# Altium schematic symbol library Regulator_Linear.SchLib: 1620 symbols (part 14 of 16)
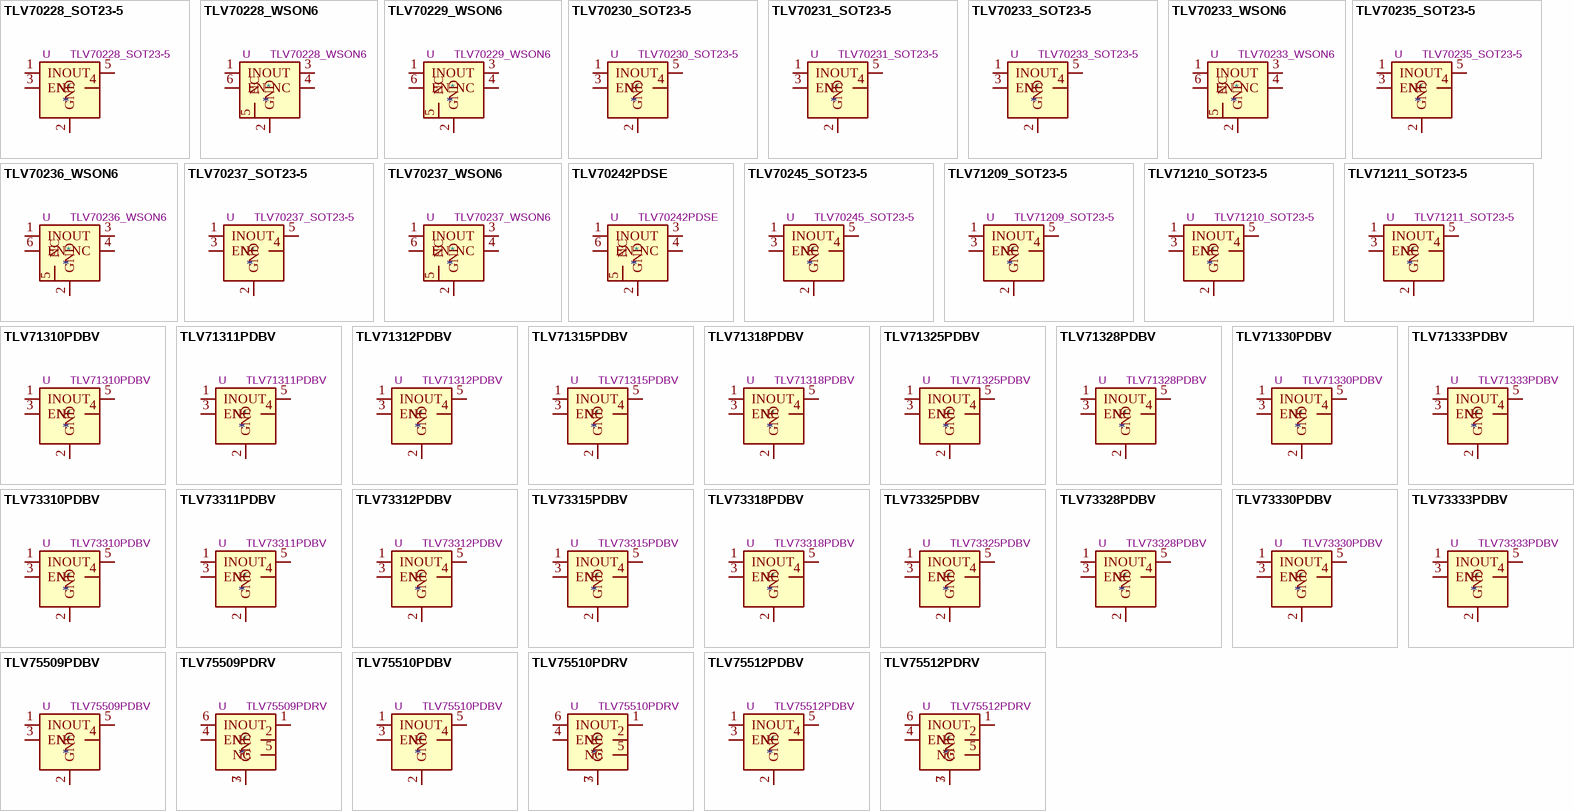
[diagram p53: symbols TLV70228_SOT23-5 to TLV75512PDRV]

## TLV71312PDBV
designator *  value TLV71312PDBV  Reference: U
150mA Low Dropout Voltage Regulator, Fixed Output 1.2V, SOT-23-5; ki_keywords: LDO Regulator Fixed Positive; ki_fp_filters: SOT?23*; Footprint: Package_TO_SOT_SMD:SOT-23-5; Datasheet: http://www.ti.com/lit/ds/symlink/tlv713p.pdf; Description_: 150mA Low Dropout Voltage Regulator, Fixed Output 1.2V, SOT-23-5
pins: 1 IN, 2 GND, 3 EN, 4 NC, 5 OUT

## TLV71315PDBV
designator *  value TLV71315PDBV  Reference: U
150mA Low Dropout Voltage Regulator, Fixed Output 1.5V, SOT-23-5; ki_keywords: LDO Regulator Fixed Positive; ki_fp_filters: SOT?23*; Footprint: Package_TO_SOT_SMD:SOT-23-5; Datasheet: http://www.ti.com/lit/ds/symlink/tlv713p.pdf; Description_: 150mA Low Dropout Voltage Regulator, Fixed Output 1.5V, SOT-23-5
pins: 1 IN, 2 GND, 3 EN, 4 NC, 5 OUT

## TLV71318PDBV
designator *  value TLV71318PDBV  Reference: U
150mA Low Dropout Voltage Regulator, Fixed Output 1.8V, SOT-23-5; ki_keywords: LDO Regulator Fixed Positive; ki_fp_filters: SOT?23*; Footprint: Package_TO_SOT_SMD:SOT-23-5; Datasheet: http://www.ti.com/lit/ds/symlink/tlv713p.pdf; Description_: 150mA Low Dropout Voltage Regulator, Fixed Output 1.8V, SOT-23-5
pins: 1 IN, 2 GND, 3 EN, 4 NC, 5 OUT

## TLV71325PDBV
designator *  value TLV71325PDBV  Reference: U
150mA Low Dropout Voltage Regulator, Fixed Output 2.5V, SOT-23-5; ki_keywords: LDO Regulator Fixed Positive; ki_fp_filters: SOT?23*; Footprint: Package_TO_SOT_SMD:SOT-23-5; Datasheet: http://www.ti.com/lit/ds/symlink/tlv713p.pdf; Description_: 150mA Low Dropout Voltage Regulator, Fixed Output 2.5V, SOT-23-5
pins: 1 IN, 2 GND, 3 EN, 4 NC, 5 OUT

## TLV71328PDBV
designator *  value TLV71328PDBV  Reference: U
150mA Low Dropout Voltage Regulator, Fixed Output 2.8V, SOT-23-5; ki_keywords: LDO Regulator Fixed Positive; ki_fp_filters: SOT?23*; Footprint: Package_TO_SOT_SMD:SOT-23-5; Datasheet: http://www.ti.com/lit/ds/symlink/tlv713p.pdf; Description_: 150mA Low Dropout Voltage Regulator, Fixed Output 2.8V, SOT-23-5
pins: 1 IN, 2 GND, 3 EN, 4 NC, 5 OUT

## TLV71330PDBV
designator *  value TLV71330PDBV  Reference: U
150mA Low Dropout Voltage Regulator, Fixed Output 3.0V, SOT-23-5; ki_keywords: LDO Regulator Fixed Positive; ki_fp_filters: SOT?23*; Footprint: Package_TO_SOT_SMD:SOT-23-5; Datasheet: http://www.ti.com/lit/ds/symlink/tlv713p.pdf; Description_: 150mA Low Dropout Voltage Regulator, Fixed Output 3.0V, SOT-23-5
pins: 1 IN, 2 GND, 3 EN, 4 NC, 5 OUT

## TLV71333PDBV
designator *  value TLV71333PDBV  Reference: U
150mA Low Dropout Voltage Regulator, Fixed Output 3.3V, SOT-23-5; ki_keywords: LDO Regulator Fixed Positive; ki_fp_filters: SOT?23*; Footprint: Package_TO_SOT_SMD:SOT-23-5; Datasheet: http://www.ti.com/lit/ds/symlink/tlv713p.pdf; Description_: 150mA Low Dropout Voltage Regulator, Fixed Output 3.3V, SOT-23-5
pins: 1 IN, 2 GND, 3 EN, 4 NC, 5 OUT

## TLV73310PDBV
designator *  value TLV73310PDBV  Reference: U
300mA Capacitor-Free Low Dropout Voltage Regulator, Fixed Output 1.0V, SOT-23-5; ki_keywords: 300mA LDO Regulator Fixed Positive Capacitor-Free; ki_fp_filters: SOT?23*; Footprint: Package_TO_SOT_SMD:SOT-23-5; Datasheet: http://www.ti.com/lit/ds/symlink/tlv733p.pdf; Description_: 300mA Capacitor-Free Low Dropout Voltage Regulator, Fixed Output 1.0V, SOT-23-5
pins: 1 IN, 2 GND, 3 EN, 4 NC, 5 OUT

## TLV73311PDBV
designator *  value TLV73311PDBV  Reference: U
300mA Capacitor-Free Low Dropout Voltage Regulator, Fixed Output 1.1V, SOT-23-5; ki_keywords: 300mA LDO Regulator Fixed Positive Capacitor-Free; ki_fp_filters: SOT?23*; Footprint: Package_TO_SOT_SMD:SOT-23-5; Datasheet: http://www.ti.com/lit/ds/symlink/tlv733p.pdf; Description_: 300mA Capacitor-Free Low Dropout Voltage Regulator, Fixed Output 1.1V, SOT-23-5
pins: 1 IN, 2 GND, 3 EN, 4 NC, 5 OUT

## TLV73312PDBV
designator *  value TLV73312PDBV  Reference: U
300mA Capacitor-Free Low Dropout Voltage Regulator, Fixed Output 1.2V, SOT-23-5; ki_keywords: 300mA LDO Regulator Fixed Positive Capacitor-Free; ki_fp_filters: SOT?23*; Footprint: Package_TO_SOT_SMD:SOT-23-5; Datasheet: http://www.ti.com/lit/ds/symlink/tlv733p.pdf; Description_: 300mA Capacitor-Free Low Dropout Voltage Regulator, Fixed Output 1.2V, SOT-23-5
pins: 1 IN, 2 GND, 3 EN, 4 NC, 5 OUT

## TLV73315PDBV
designator *  value TLV73315PDBV  Reference: U
300mA Capacitor-Free Low Dropout Voltage Regulator, Fixed Output 1.5V, SOT-23-5; ki_keywords: 300mA LDO Regulator Fixed Positive Capacitor-Free; ki_fp_filters: SOT?23*; Footprint: Package_TO_SOT_SMD:SOT-23-5; Datasheet: http://www.ti.com/lit/ds/symlink/tlv733p.pdf; Description_: 300mA Capacitor-Free Low Dropout Voltage Regulator, Fixed Output 1.5V, SOT-23-5
pins: 1 IN, 2 GND, 3 EN, 4 NC, 5 OUT

## TLV73318PDBV
designator *  value TLV73318PDBV  Reference: U
300mA Capacitor-Free Low Dropout Voltage Regulator, Fixed Output 1.8V, SOT-23-5; ki_keywords: 300mA LDO Regulator Fixed Positive Capacitor-Free; ki_fp_filters: SOT?23*; Footprint: Package_TO_SOT_SMD:SOT-23-5; Datasheet: http://www.ti.com/lit/ds/symlink/tlv733p.pdf; Description_: 300mA Capacitor-Free Low Dropout Voltage Regulator, Fixed Output 1.8V, SOT-23-5
pins: 1 IN, 2 GND, 3 EN, 4 NC, 5 OUT

## TLV73325PDBV
designator *  value TLV73325PDBV  Reference: U
300mA Capacitor-Free Low Dropout Voltage Regulator, Fixed Output 2.5V, SOT-23-5; ki_keywords: 300mA LDO Regulator Fixed Positive Capacitor-Free; ki_fp_filters: SOT?23*; Footprint: Package_TO_SOT_SMD:SOT-23-5; Datasheet: http://www.ti.com/lit/ds/symlink/tlv733p.pdf; Description_: 300mA Capacitor-Free Low Dropout Voltage Regulator, Fixed Output 2.5V, SOT-23-5
pins: 1 IN, 2 GND, 3 EN, 4 NC, 5 OUT

## TLV73328PDBV
designator *  value TLV73328PDBV  Reference: U
300mA Capacitor-Free Low Dropout Voltage Regulator, Fixed Output 2.8V, SOT-23-5; ki_keywords: 300mA LDO Regulator Fixed Positive Capacitor-Free; ki_fp_filters: SOT?23*; Footprint: Package_TO_SOT_SMD:SOT-23-5; Datasheet: http://www.ti.com/lit/ds/symlink/tlv733p.pdf; Description_: 300mA Capacitor-Free Low Dropout Voltage Regulator, Fixed Output 2.8V, SOT-23-5
pins: 1 IN, 2 GND, 3 EN, 4 NC, 5 OUT

## TLV73330PDBV
designator *  value TLV73330PDBV  Reference: U
300mA Capacitor-Free Low Dropout Voltage Regulator, Fixed Output 3.0V, SOT-23-5; ki_keywords: 300mA LDO Regulator Fixed Positive Capacitor-Free; ki_fp_filters: SOT?23*; Footprint: Package_TO_SOT_SMD:SOT-23-5; Datasheet: http://www.ti.com/lit/ds/symlink/tlv733p.pdf; Description_: 300mA Capacitor-Free Low Dropout Voltage Regulator, Fixed Output 3.0V, SOT-23-5
pins: 1 IN, 2 GND, 3 EN, 4 NC, 5 OUT

## TLV73333PDBV
designator *  value TLV73333PDBV  Reference: U
300mA Capacitor-Free Low Dropout Voltage Regulator, Fixed Output 3.3V, SOT-23-5; ki_keywords: 300mA LDO Regulator Fixed Positive Capacitor-Free; ki_fp_filters: SOT?23*; Footprint: Package_TO_SOT_SMD:SOT-23-5; Datasheet: http://www.ti.com/lit/ds/symlink/tlv733p.pdf; Description_: 300mA Capacitor-Free Low Dropout Voltage Regulator, Fixed Output 3.3V, SOT-23-5
pins: 1 IN, 2 GND, 3 EN, 4 NC, 5 OUT

## TLV75509PDBV
designator *  value TLV75509PDBV  Reference: U
500mA Low IQ Small Size Low Dropout Voltage Regulator, Fixed Output 0.9V, SOT-23-5; ki_keywords: LDO Regulator Fixed Positive; ki_fp_filters: SOT?23*; Footprint: Package_TO_SOT_SMD:SOT-23-5; Datasheet: http://www.ti.com/lit/ds/symlink/tlv755p.pdf; Description_: 500mA Low IQ Small Size Low Dropout Voltage Regulator, Fixed Output 0.9V, SOT-23-5
pins: 1 IN, 2 GND, 3 EN, 4 NC, 5 OUT

## TLV75509PDRV
designator *  value TLV75509PDRV  Reference: U
500mA Low Dropout Voltage Regulator, Fixed Output 0.9V, WSON6; ki_keywords: LDO Regulator Fixed Positive; ki_fp_filters: WSON*1EP*2x2mm*P0.65mm*; Footprint: Package_SON:WSON-6-1EP_2x2mm_P0.65mm_EP1x1.6mm; Datasheet: http://www.ti.com/lit/ds/symlink/tlv755p.pdf; Description_: 500mA Low Dropout Voltage Regulator, Fixed Output 0.9V, WSON6
pins: 1 OUT, 2 NC, 3 GND, 4 EN, 5 NC, 6 IN, 7 GND

## TLV75510PDBV
designator *  value TLV75510PDBV  Reference: U
500mA Low IQ Small Size Low Dropout Voltage Regulator, Fixed Output 1.0V, SOT-23-5; ki_keywords: LDO Regulator Fixed Positive; ki_fp_filters: SOT?23*; Footprint: Package_TO_SOT_SMD:SOT-23-5; Datasheet: http://www.ti.com/lit/ds/symlink/tlv755p.pdf; Description_: 500mA Low IQ Small Size Low Dropout Voltage Regulator, Fixed Output 1.0V, SOT-23-5
pins: 1 IN, 2 GND, 3 EN, 4 NC, 5 OUT

## TLV75510PDRV
designator *  value TLV75510PDRV  Reference: U
500mA Low Dropout Voltage Regulator, Fixed Output 1.0V, WSON6; ki_keywords: LDO Regulator Fixed Positive; ki_fp_filters: WSON*1EP*2x2mm*P0.65mm*; Footprint: Package_SON:WSON-6-1EP_2x2mm_P0.65mm_EP1x1.6mm; Datasheet: http://www.ti.com/lit/ds/symlink/tlv755p.pdf; Description_: 500mA Low Dropout Voltage Regulator, Fixed Output 1.0V, WSON6
pins: 1 OUT, 2 NC, 3 GND, 4 EN, 5 NC, 6 IN, 7 GND

## TLV75512PDBV
designator *  value TLV75512PDBV  Reference: U
500mA Low IQ Small Size Low Dropout Voltage Regulator, Fixed Output 1.2V, SOT-23-5; ki_keywords: LDO Regulator Fixed Positive; ki_fp_filters: SOT?23*; Footprint: Package_TO_SOT_SMD:SOT-23-5; Datasheet: http://www.ti.com/lit/ds/symlink/tlv755p.pdf; Description_: 500mA Low IQ Small Size Low Dropout Voltage Regulator, Fixed Output 1.2V, SOT-23-5
pins: 1 IN, 2 GND, 3 EN, 4 NC, 5 OUT

## TLV75512PDRV
designator *  value TLV75512PDRV  Reference: U
500mA Low Dropout Voltage Regulator, Fixed Output 1.2V, WSON6; ki_keywords: LDO Regulator Fixed Positive; ki_fp_filters: WSON*1EP*2x2mm*P0.65mm*; Footprint: Package_SON:WSON-6-1EP_2x2mm_P0.65mm_EP1x1.6mm; Datasheet: http://www.ti.com/lit/ds/symlink/tlv755p.pdf; Description_: 500mA Low Dropout Voltage Regulator, Fixed Output 1.2V, WSON6
pins: 1 OUT, 2 NC, 3 GND, 4 EN, 5 NC, 6 IN, 7 GND

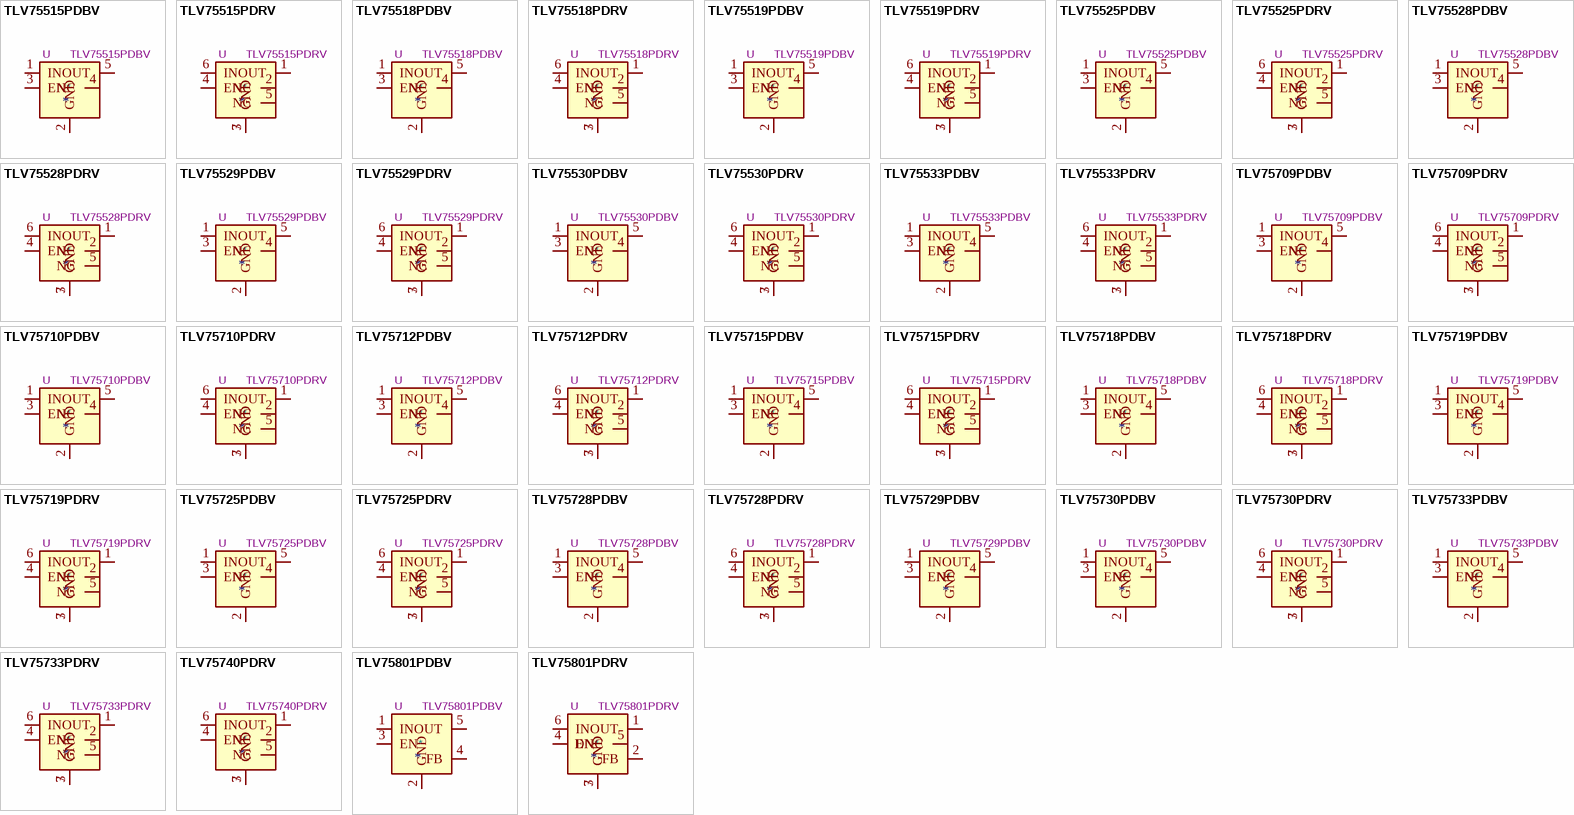
[diagram p35: symbols TLV75515PDBV to TLV75801PDRV]

## TLV75515PDBV
designator *  value TLV75515PDBV  Reference: U
500mA Low Dropout Voltage Regulator, Fixed Output 1.5V, SOT-23-5; ki_keywords: LDO Regulator Fixed Positive; ki_fp_filters: SOT?23*; Footprint: Package_TO_SOT_SMD:SOT-23-5; Datasheet: http://www.ti.com/lit/ds/symlink/tlv755p.pdf; Description_: 500mA Low Dropout Voltage Regulator, Fixed Output 1.5V, SOT-23-5
pins: 1 IN, 2 GND, 3 EN, 4 NC, 5 OUT

## TLV75515PDRV
designator *  value TLV75515PDRV  Reference: U
500mA Low Dropout Voltage Regulator, Fixed Output 1.5V, WSON6; ki_keywords: LDO Regulator Fixed Positive; ki_fp_filters: WSON*1EP*2x2mm*P0.65mm*; Footprint: Package_SON:WSON-6-1EP_2x2mm_P0.65mm_EP1x1.6mm; Datasheet: http://www.ti.com/lit/ds/symlink/tlv755p.pdf; Description_: 500mA Low Dropout Voltage Regulator, Fixed Output 1.5V, WSON6
pins: 1 OUT, 2 NC, 3 GND, 4 EN, 5 NC, 6 IN, 7 GND

## TLV75518PDBV
designator *  value TLV75518PDBV  Reference: U
500mA Low Dropout Voltage Regulator, Fixed Output 1.8V, SOT-23-5; ki_keywords: LDO Regulator Fixed Positive; ki_fp_filters: SOT?23*; Footprint: Package_TO_SOT_SMD:SOT-23-5; Datasheet: http://www.ti.com/lit/ds/symlink/tlv755p.pdf; Description_: 500mA Low Dropout Voltage Regulator, Fixed Output 1.8V, SOT-23-5
pins: 1 IN, 2 GND, 3 EN, 4 NC, 5 OUT

## TLV75518PDRV
designator *  value TLV75518PDRV  Reference: U
500mA Low Dropout Voltage Regulator, Fixed Output 1.8V, WSON6; ki_keywords: LDO Regulator Fixed Positive; ki_fp_filters: WSON*1EP*2x2mm*P0.65mm*; Footprint: Package_SON:WSON-6-1EP_2x2mm_P0.65mm_EP1x1.6mm; Datasheet: http://www.ti.com/lit/ds/symlink/tlv755p.pdf; Description_: 500mA Low Dropout Voltage Regulator, Fixed Output 1.8V, WSON6
pins: 1 OUT, 2 NC, 3 GND, 4 EN, 5 NC, 6 IN, 7 GND

## TLV75519PDBV
designator *  value TLV75519PDBV  Reference: U
500mA Low Dropout Voltage Regulator, Fixed Output 1.9V, SOT-23-5; ki_keywords: LDO Regulator Fixed Positive; ki_fp_filters: SOT?23*; Footprint: Package_TO_SOT_SMD:SOT-23-5; Datasheet: http://www.ti.com/lit/ds/symlink/tlv755p.pdf; Description_: 500mA Low Dropout Voltage Regulator, Fixed Output 1.9V, SOT-23-5
pins: 1 IN, 2 GND, 3 EN, 4 NC, 5 OUT

## TLV75519PDRV
designator *  value TLV75519PDRV  Reference: U
500mA Low Dropout Voltage Regulator, Fixed Output 1.9V, WSON6; ki_keywords: LDO Regulator Fixed Positive; ki_fp_filters: WSON*1EP*2x2mm*P0.65mm*; Footprint: Package_SON:WSON-6-1EP_2x2mm_P0.65mm_EP1x1.6mm; Datasheet: http://www.ti.com/lit/ds/symlink/tlv755p.pdf; Description_: 500mA Low Dropout Voltage Regulator, Fixed Output 1.9V, WSON6
pins: 1 OUT, 2 NC, 3 GND, 4 EN, 5 NC, 6 IN, 7 GND

## TLV75525PDBV
designator *  value TLV75525PDBV  Reference: U
500mA Low Dropout Voltage Regulator, Fixed Output 2.5V, SOT-23-5; ki_keywords: LDO Regulator Fixed Positive; ki_fp_filters: SOT?23*; Footprint: Package_TO_SOT_SMD:SOT-23-5; Datasheet: http://www.ti.com/lit/ds/symlink/tlv755p.pdf; Description_: 500mA Low Dropout Voltage Regulator, Fixed Output 2.5V, SOT-23-5
pins: 1 IN, 2 GND, 3 EN, 4 NC, 5 OUT

## TLV75525PDRV
designator *  value TLV75525PDRV  Reference: U
500mA Low Dropout Voltage Regulator, Fixed Output 2.5V, WSON6; ki_keywords: LDO Regulator Fixed Positive; ki_fp_filters: WSON*1EP*2x2mm*P0.65mm*; Footprint: Package_SON:WSON-6-1EP_2x2mm_P0.65mm_EP1x1.6mm; Datasheet: http://www.ti.com/lit/ds/symlink/tlv755p.pdf; Description_: 500mA Low Dropout Voltage Regulator, Fixed Output 2.5V, WSON6
pins: 1 OUT, 2 NC, 3 GND, 4 EN, 5 NC, 6 IN, 7 GND

## TLV75528PDBV
designator *  value TLV75528PDBV  Reference: U
500mA Low Dropout Voltage Regulator, Fixed Output 2.8V, SOT-23-5; ki_keywords: LDO Regulator Fixed Positive; ki_fp_filters: SOT?23*; Footprint: Package_TO_SOT_SMD:SOT-23-5; Datasheet: http://www.ti.com/lit/ds/symlink/tlv755p.pdf; Description_: 500mA Low Dropout Voltage Regulator, Fixed Output 2.8V, SOT-23-5
pins: 1 IN, 2 GND, 3 EN, 4 NC, 5 OUT

## TLV75528PDRV
designator *  value TLV75528PDRV  Reference: U
500mA Low Dropout Voltage Regulator, Fixed Output 2.8V, WSON6; ki_keywords: LDO Regulator Fixed Positive; ki_fp_filters: WSON*1EP*2x2mm*P0.65mm*; Footprint: Package_SON:WSON-6-1EP_2x2mm_P0.65mm_EP1x1.6mm; Datasheet: http://www.ti.com/lit/ds/symlink/tlv755p.pdf; Description_: 500mA Low Dropout Voltage Regulator, Fixed Output 2.8V, WSON6
pins: 1 OUT, 2 NC, 3 GND, 4 EN, 5 NC, 6 IN, 7 GND

## TLV75529PDBV
designator *  value TLV75529PDBV  Reference: U
500mA Low Dropout Voltage Regulator, Fixed Output 2.9V, SOT-23-5; ki_keywords: LDO Regulator Fixed Positive; ki_fp_filters: SOT?23*; Footprint: Package_TO_SOT_SMD:SOT-23-5; Datasheet: http://www.ti.com/lit/ds/symlink/tlv755p.pdf; Description_: 500mA Low Dropout Voltage Regulator, Fixed Output 2.9V, SOT-23-5
pins: 1 IN, 2 GND, 3 EN, 4 NC, 5 OUT

## TLV75529PDRV
designator *  value TLV75529PDRV  Reference: U
500mA Low Dropout Voltage Regulator, Fixed Output 2.9V, WSON6; ki_keywords: LDO Regulator Fixed Positive; ki_fp_filters: WSON*1EP*2x2mm*P0.65mm*; Footprint: Package_SON:WSON-6-1EP_2x2mm_P0.65mm_EP1x1.6mm; Datasheet: http://www.ti.com/lit/ds/symlink/tlv755p.pdf; Description_: 500mA Low Dropout Voltage Regulator, Fixed Output 2.9V, WSON6
pins: 1 OUT, 2 NC, 3 GND, 4 EN, 5 NC, 6 IN, 7 GND

## TLV75530PDBV
designator *  value TLV75530PDBV  Reference: U
500mA Low Dropout Voltage Regulator, Fixed Output 3.0V, SOT-23-5; ki_keywords: LDO Regulator Fixed Positive; ki_fp_filters: SOT?23*; Footprint: Package_TO_SOT_SMD:SOT-23-5; Datasheet: http://www.ti.com/lit/ds/symlink/tlv755p.pdf; Description_: 500mA Low Dropout Voltage Regulator, Fixed Output 3.0V, SOT-23-5
pins: 1 IN, 2 GND, 3 EN, 4 NC, 5 OUT

## TLV75530PDRV
designator *  value TLV75530PDRV  Reference: U
500mA Low Dropout Voltage Regulator, Fixed Output 3.0V, WSON6; ki_keywords: LDO Regulator Fixed Positive; ki_fp_filters: WSON*1EP*2x2mm*P0.65mm*; Footprint: Package_SON:WSON-6-1EP_2x2mm_P0.65mm_EP1x1.6mm; Datasheet: http://www.ti.com/lit/ds/symlink/tlv755p.pdf; Description_: 500mA Low Dropout Voltage Regulator, Fixed Output 3.0V, WSON6
pins: 1 OUT, 2 NC, 3 GND, 4 EN, 5 NC, 6 IN, 7 GND

## TLV75533PDBV
designator *  value TLV75533PDBV  Reference: U
500mA Low Dropout Voltage Regulator, Fixed Output 3.3V, SOT-23-5; ki_keywords: LDO Regulator Fixed Positive; ki_fp_filters: SOT?23*; Footprint: Package_TO_SOT_SMD:SOT-23-5; Datasheet: http://www.ti.com/lit/ds/symlink/tlv755p.pdf; Description_: 500mA Low Dropout Voltage Regulator, Fixed Output 3.3V, SOT-23-5
pins: 1 IN, 2 GND, 3 EN, 4 NC, 5 OUT

## TLV75533PDRV
designator *  value TLV75533PDRV  Reference: U
500mA Low Dropout Voltage Regulator, Fixed Output 3.3V, WSON6; ki_keywords: LDO Regulator Fixed Positive; ki_fp_filters: WSON*1EP*2x2mm*P0.65mm*; Footprint: Package_SON:WSON-6-1EP_2x2mm_P0.65mm_EP1x1.6mm; Datasheet: http://www.ti.com/lit/ds/symlink/tlv755p.pdf; Description_: 500mA Low Dropout Voltage Regulator, Fixed Output 3.3V, WSON6
pins: 1 OUT, 2 NC, 3 GND, 4 EN, 5 NC, 6 IN, 7 GND

## TLV75709PDBV
designator *  value TLV75709PDBV  Reference: U
1A Low IQ Small Size Low Dropout Voltage Regulator, Fixed Output 0.9V, SOT-23-5; ki_keywords: LDO Regulator Fixed Positive; ki_fp_filters: SOT?23*; Footprint: Package_TO_SOT_SMD:SOT-23-5; Datasheet: https://www.ti.com/lit/ds/symlink/tlv757p.pdf; Description_: 1A Low IQ Small Size Low Dropout Voltage Regulator, Fixed Output 0.9V, SOT-23-5
pins: 1 IN, 2 GND, 3 EN, 4 NC, 5 OUT

## TLV75709PDRV
designator *  value TLV75709PDRV  Reference: U
1A Low IQ Small Size Low Dropout Voltage Regulator, Fixed Output 0.9V, WSON6; ki_keywords: LDO Regulator Fixed Positive; ki_fp_filters: WSON*1EP*2x2mm*P0.65mm*; Footprint: Package_SON:WSON-6-1EP_2x2mm_P0.65mm_EP1x1.6mm; Datasheet: https://www.ti.com/lit/ds/symlink/tlv757p.pdf; Description_: 1A Low IQ Small Size Low Dropout Voltage Regulator, Fixed Output 0.9V, WSON6
pins: 1 OUT, 2 NC, 3 GND, 4 EN, 5 NC, 6 IN, 7 GND

## TLV75710PDBV
designator *  value TLV75710PDBV  Reference: U
1A Low IQ Small Size Low Dropout Voltage Regulator, Fixed Output 1.0V, SOT-23-5; ki_keywords: LDO Regulator Fixed Positive; ki_fp_filters: SOT?23*; Footprint: Package_TO_SOT_SMD:SOT-23-5; Datasheet: https://www.ti.com/lit/ds/symlink/tlv757p.pdf; Description_: 1A Low IQ Small Size Low Dropout Voltage Regulator, Fixed Output 1.0V, SOT-23-5
pins: 1 IN, 2 GND, 3 EN, 4 NC, 5 OUT

## TLV75710PDRV
designator *  value TLV75710PDRV  Reference: U
1A Low IQ Small Size Low Dropout Voltage Regulator, Fixed Output 1.0V, WSON6; ki_keywords: LDO Regulator Fixed Positive; ki_fp_filters: WSON*1EP*2x2mm*P0.65mm*; Footprint: Package_SON:WSON-6-1EP_2x2mm_P0.65mm_EP1x1.6mm; Datasheet: https://www.ti.com/lit/ds/symlink/tlv757p.pdf; Description_: 1A Low IQ Small Size Low Dropout Voltage Regulator, Fixed Output 1.0V, WSON6
pins: 1 OUT, 2 NC, 3 GND, 4 EN, 5 NC, 6 IN, 7 GND

## TLV75712PDBV
designator *  value TLV75712PDBV  Reference: U
1A Low IQ Small Size Low Dropout Voltage Regulator, Fixed Output 1.2V, SOT-23-5; ki_keywords: LDO Regulator Fixed Positive; ki_fp_filters: SOT?23*; Footprint: Package_TO_SOT_SMD:SOT-23-5; Datasheet: https://www.ti.com/lit/ds/symlink/tlv757p.pdf; Description_: 1A Low IQ Small Size Low Dropout Voltage Regulator, Fixed Output 1.2V, SOT-23-5
pins: 1 IN, 2 GND, 3 EN, 4 NC, 5 OUT

## TLV75712PDRV
designator *  value TLV75712PDRV  Reference: U
1A Low IQ Small Size Low Dropout Voltage Regulator, Fixed Output 1.2V, WSON6; ki_keywords: LDO Regulator Fixed Positive; ki_fp_filters: WSON*1EP*2x2mm*P0.65mm*; Footprint: Package_SON:WSON-6-1EP_2x2mm_P0.65mm_EP1x1.6mm; Datasheet: https://www.ti.com/lit/ds/symlink/tlv757p.pdf; Description_: 1A Low IQ Small Size Low Dropout Voltage Regulator, Fixed Output 1.2V, WSON6
pins: 1 OUT, 2 NC, 3 GND, 4 EN, 5 NC, 6 IN, 7 GND

## TLV75715PDBV
designator *  value TLV75715PDBV  Reference: U
1A Low IQ Small Size Low Dropout Voltage Regulator, Fixed Output 1.5V, SOT-23-5; ki_keywords: LDO Regulator Fixed Positive; ki_fp_filters: SOT?23*; Footprint: Package_TO_SOT_SMD:SOT-23-5; Datasheet: https://www.ti.com/lit/ds/symlink/tlv757p.pdf; Description_: 1A Low IQ Small Size Low Dropout Voltage Regulator, Fixed Output 1.5V, SOT-23-5
pins: 1 IN, 2 GND, 3 EN, 4 NC, 5 OUT

## TLV75715PDRV
designator *  value TLV75715PDRV  Reference: U
1A Low IQ Small Size Low Dropout Voltage Regulator, Fixed Output 1.5V, WSON6; ki_keywords: LDO Regulator Fixed Positive; ki_fp_filters: WSON*1EP*2x2mm*P0.65mm*; Footprint: Package_SON:WSON-6-1EP_2x2mm_P0.65mm_EP1x1.6mm; Datasheet: https://www.ti.com/lit/ds/symlink/tlv757p.pdf; Description_: 1A Low IQ Small Size Low Dropout Voltage Regulator, Fixed Output 1.5V, WSON6
pins: 1 OUT, 2 NC, 3 GND, 4 EN, 5 NC, 6 IN, 7 GND

## TLV75718PDBV
designator *  value TLV75718PDBV  Reference: U
1A Low IQ Small Size Low Dropout Voltage Regulator, Fixed Output 1.8V, SOT-23-5; ki_keywords: LDO Regulator Fixed Positive; ki_fp_filters: SOT?23*; Footprint: Package_TO_SOT_SMD:SOT-23-5; Datasheet: https://www.ti.com/lit/ds/symlink/tlv757p.pdf; Description_: 1A Low IQ Small Size Low Dropout Voltage Regulator, Fixed Output 1.8V, SOT-23-5
pins: 1 IN, 2 GND, 3 EN, 4 NC, 5 OUT

## TLV75718PDRV
designator *  value TLV75718PDRV  Reference: U
1A Low IQ Small Size Low Dropout Voltage Regulator, Fixed Output 1.8V, WSON6; ki_keywords: LDO Regulator Fixed Positive; ki_fp_filters: WSON*1EP*2x2mm*P0.65mm*; Footprint: Package_SON:WSON-6-1EP_2x2mm_P0.65mm_EP1x1.6mm; Datasheet: https://www.ti.com/lit/ds/symlink/tlv757p.pdf; Description_: 1A Low IQ Small Size Low Dropout Voltage Regulator, Fixed Output 1.8V, WSON6
pins: 1 OUT, 2 NC, 3 GND, 4 EN, 5 NC, 6 IN, 7 GND

## TLV75719PDBV
designator *  value TLV75719PDBV  Reference: U
1A Low IQ Small Size Low Dropout Voltage Regulator, Fixed Output 1.9V, SOT-23-5; ki_keywords: LDO Regulator Fixed Positive; ki_fp_filters: SOT?23*; Footprint: Package_TO_SOT_SMD:SOT-23-5; Datasheet: https://www.ti.com/lit/ds/symlink/tlv757p.pdf; Description_: 1A Low IQ Small Size Low Dropout Voltage Regulator, Fixed Output 1.9V, SOT-23-5
pins: 1 IN, 2 GND, 3 EN, 4 NC, 5 OUT

## TLV75719PDRV
designator *  value TLV75719PDRV  Reference: U
1A Low IQ Small Size Low Dropout Voltage Regulator, Fixed Output 1.9V, WSON6; ki_keywords: LDO Regulator Fixed Positive; ki_fp_filters: WSON*1EP*2x2mm*P0.65mm*; Footprint: Package_SON:WSON-6-1EP_2x2mm_P0.65mm_EP1x1.6mm; Datasheet: https://www.ti.com/lit/ds/symlink/tlv757p.pdf; Description_: 1A Low IQ Small Size Low Dropout Voltage Regulator, Fixed Output 1.9V, WSON6
pins: 1 OUT, 2 NC, 3 GND, 4 EN, 5 NC, 6 IN, 7 GND

## TLV75725PDBV
designator *  value TLV75725PDBV  Reference: U
1A Low IQ Small Size Low Dropout Voltage Regulator, Fixed Output 2.5V, SOT-23-5; ki_keywords: LDO Regulator Fixed Positive; ki_fp_filters: SOT?23*; Footprint: Package_TO_SOT_SMD:SOT-23-5; Datasheet: https://www.ti.com/lit/ds/symlink/tlv757p.pdf; Description_: 1A Low IQ Small Size Low Dropout Voltage Regulator, Fixed Output 2.5V, SOT-23-5
pins: 1 IN, 2 GND, 3 EN, 4 NC, 5 OUT

## TLV75725PDRV
designator *  value TLV75725PDRV  Reference: U
1A Low IQ Small Size Low Dropout Voltage Regulator, Fixed Output 2.5V, WSON6; ki_keywords: LDO Regulator Fixed Positive; ki_fp_filters: WSON*1EP*2x2mm*P0.65mm*; Footprint: Package_SON:WSON-6-1EP_2x2mm_P0.65mm_EP1x1.6mm; Datasheet: https://www.ti.com/lit/ds/symlink/tlv757p.pdf; Description_: 1A Low IQ Small Size Low Dropout Voltage Regulator, Fixed Output 2.5V, WSON6
pins: 1 OUT, 2 NC, 3 GND, 4 EN, 5 NC, 6 IN, 7 GND

## TLV75728PDBV
designator *  value TLV75728PDBV  Reference: U
1A Low IQ Small Size Low Dropout Voltage Regulator, Fixed Output 2.8V, SOT-23-5; ki_keywords: LDO Regulator Fixed Positive; ki_fp_filters: SOT?23*; Footprint: Package_TO_SOT_SMD:SOT-23-5; Datasheet: https://www.ti.com/lit/ds/symlink/tlv757p.pdf; Description_: 1A Low IQ Small Size Low Dropout Voltage Regulator, Fixed Output 2.8V, SOT-23-5
pins: 1 IN, 2 GND, 3 EN, 4 NC, 5 OUT

## TLV75728PDRV
designator *  value TLV75728PDRV  Reference: U
1A Low IQ Small Size Low Dropout Voltage Regulator, Fixed Output 2.8V, WSON6; ki_keywords: LDO Regulator Fixed Positive; ki_fp_filters: WSON*1EP*2x2mm*P0.65mm*; Footprint: Package_SON:WSON-6-1EP_2x2mm_P0.65mm_EP1x1.6mm; Datasheet: https://www.ti.com/lit/ds/symlink/tlv757p.pdf; Description_: 1A Low IQ Small Size Low Dropout Voltage Regulator, Fixed Output 2.8V, WSON6
pins: 1 OUT, 2 NC, 3 GND, 4 EN, 5 NC, 6 IN, 7 GND

## TLV75729PDBV
designator *  value TLV75729PDBV  Reference: U
1A Low IQ Small Size Low Dropout Voltage Regulator, Fixed Output 2.9V, SOT-23-5; ki_keywords: LDO Regulator Fixed Positive; ki_fp_filters: SOT?23*; Footprint: Package_TO_SOT_SMD:SOT-23-5; Datasheet: https://www.ti.com/lit/ds/symlink/tlv757p.pdf; Description_: 1A Low IQ Small Size Low Dropout Voltage Regulator, Fixed Output 2.9V, SOT-23-5
pins: 1 IN, 2 GND, 3 EN, 4 NC, 5 OUT

## TLV75730PDBV
designator *  value TLV75730PDBV  Reference: U
1A Low IQ Small Size Low Dropout Voltage Regulator, Fixed Output 3.0V, SOT-23-5; ki_keywords: LDO Regulator Fixed Positive; ki_fp_filters: SOT?23*; Footprint: Package_TO_SOT_SMD:SOT-23-5; Datasheet: https://www.ti.com/lit/ds/symlink/tlv757p.pdf; Description_: 1A Low IQ Small Size Low Dropout Voltage Regulator, Fixed Output 3.0V, SOT-23-5
pins: 1 IN, 2 GND, 3 EN, 4 NC, 5 OUT

## TLV75730PDRV
designator *  value TLV75730PDRV  Reference: U
1A Low IQ Small Size Low Dropout Voltage Regulator, Fixed Output 3.0V, WSON6; ki_keywords: LDO Regulator Fixed Positive; ki_fp_filters: WSON*1EP*2x2mm*P0.65mm*; Footprint: Package_SON:WSON-6-1EP_2x2mm_P0.65mm_EP1x1.6mm; Datasheet: https://www.ti.com/lit/ds/symlink/tlv757p.pdf; Description_: 1A Low IQ Small Size Low Dropout Voltage Regulator, Fixed Output 3.0V, WSON6
pins: 1 OUT, 2 NC, 3 GND, 4 EN, 5 NC, 6 IN, 7 GND

## TLV75733PDBV
designator *  value TLV75733PDBV  Reference: U
1A Low IQ Small Size Low Dropout Voltage Regulator, Fixed Output 3.3V, SOT-23-5; ki_keywords: LDO Regulator Fixed Positive; ki_fp_filters: SOT?23*; Footprint: Package_TO_SOT_SMD:SOT-23-5; Datasheet: https://www.ti.com/lit/ds/symlink/tlv757p.pdf; Description_: 1A Low IQ Small Size Low Dropout Voltage Regulator, Fixed Output 3.3V, SOT-23-5
pins: 1 IN, 2 GND, 3 EN, 4 NC, 5 OUT

## TLV75733PDRV
designator *  value TLV75733PDRV  Reference: U
1A Low IQ Small Size Low Dropout Voltage Regulator, Fixed Output 3.3V, WSON6; ki_keywords: LDO Regulator Fixed Positive; ki_fp_filters: WSON*1EP*2x2mm*P0.65mm*; Footprint: Package_SON:WSON-6-1EP_2x2mm_P0.65mm_EP1x1.6mm; Datasheet: https://www.ti.com/lit/ds/symlink/tlv757p.pdf; Description_: 1A Low IQ Small Size Low Dropout Voltage Regulator, Fixed Output 3.3V, WSON6
pins: 1 OUT, 2 NC, 3 GND, 4 EN, 5 NC, 6 IN, 7 GND

## TLV75740PDRV
designator *  value TLV75740PDRV  Reference: U
1A Low IQ Small Size Low Dropout Voltage Regulator, Fixed Output 4.0V, WSON6; ki_keywords: LDO Regulator Fixed Positive; ki_fp_filters: WSON*1EP*2x2mm*P0.65mm*; Footprint: Package_SON:WSON-6-1EP_2x2mm_P0.65mm_EP1x1.6mm; Datasheet: https://www.ti.com/lit/ds/symlink/tlv757p.pdf; Description_: 1A Low IQ Small Size Low Dropout Voltage Regulator, Fixed Output 4.0V, WSON6
pins: 1 OUT, 2 NC, 3 GND, 4 EN, 5 NC, 6 IN, 7 GND

## TLV75801PDBV
designator *  value TLV75801PDBV  Reference: U
500mA Low-Dropout Linear Regulator, Adjustable Output, SOT-23-5; ki_keywords: ldo positive; ki_fp_filters: SOT?23*; Footprint: Package_TO_SOT_SMD:SOT-23-5; Datasheet: https://www.ti.com/lit/ds/symlink/tlv758p.pdf; Description_: 500mA Low-Dropout Linear Regulator, Adjustable Output, SOT-23-5
pins: 1 IN, 2 GND, 3 EN, 4 FB, 5 OUT

## TLV75801PDRV
designator *  value TLV75801PDRV  Reference: U
500mA Low-Dropout Linear Regulator, Adjustable Output, WSON-6; ki_keywords: ldo positive; ki_fp_filters: WSON*1EP*2x2mm*P0.65mm*; Footprint: Package_SON:WSON-6-1EP_2x2mm_P0.65mm_EP1x1.6mm; Datasheet: https://www.ti.com/lit/ds/symlink/tlv758p.pdf; Description_: 500mA Low-Dropout Linear Regulator, Adjustable Output, WSON-6
pins: 1 OUT, 2 FB, 3 GND, 4 EN, 5 DNC, 6 IN, 7 GND

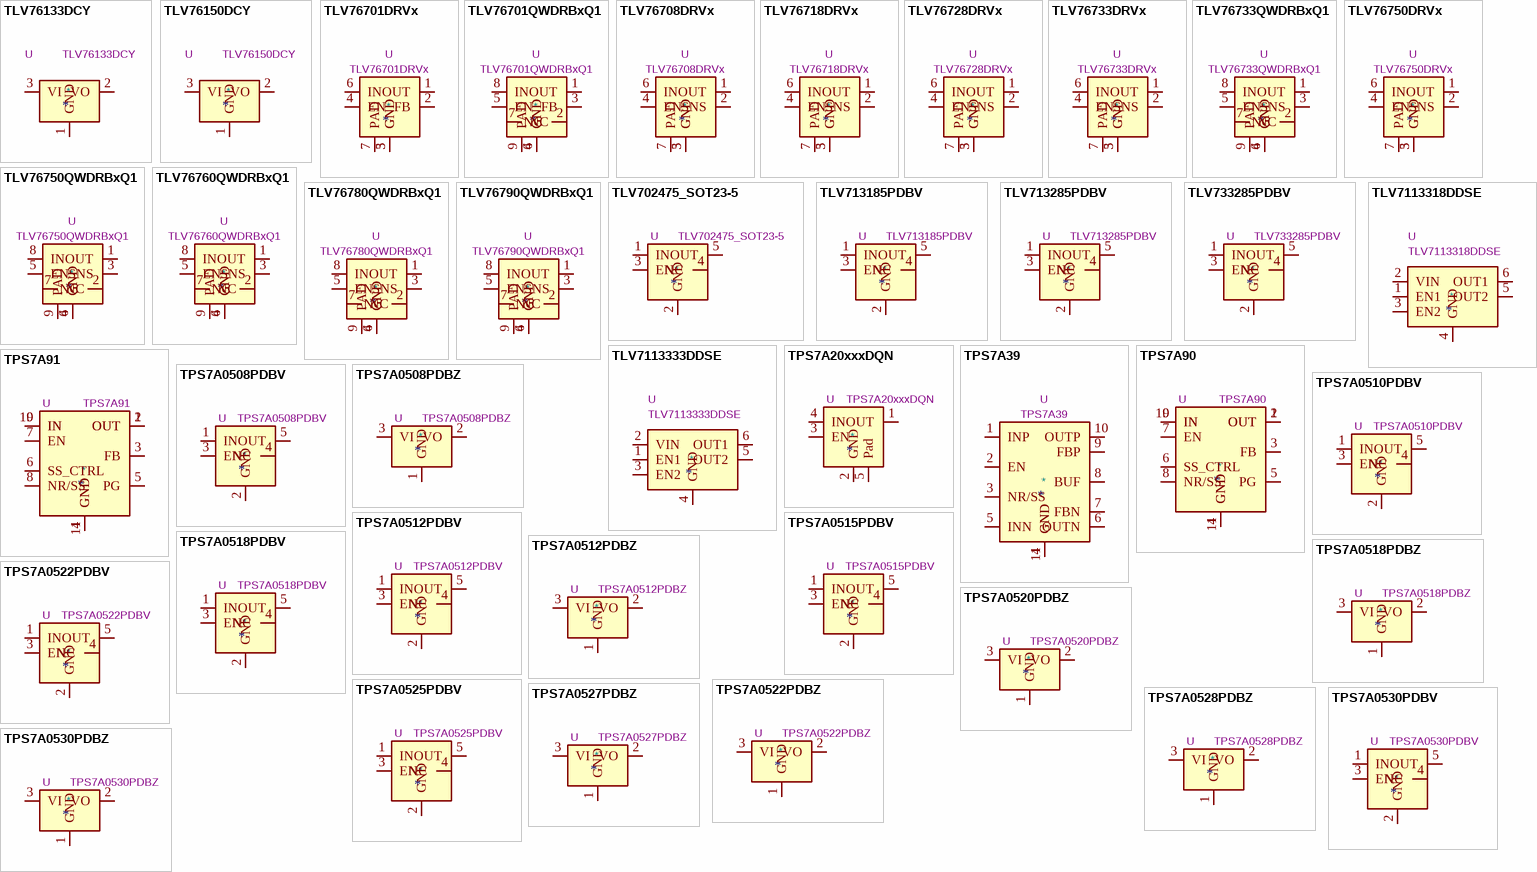
[diagram p36: symbols TLV76133DCY to TPS7A0530PDBZ]

## TLV76133DCY
designator *  value TLV76133DCY  Reference: U
3.3V, 1A, Low Noise, High-PSRR LDO Regulator, 2.5V...16V input, SOT-223; ki_keywords: voltage fixed low-dropout; ki_fp_filters: SOT*223*; Footprint: Package_TO_SOT_SMD:SOT-223-3_TabPin2; Datasheet: https://www.ti.com/lit/ds/symlink/tlv761.pdf; Description_: 3.3V, 1A, Low Noise, High-PSRR LDO Regulator, 2.5V...16V input, SOT-223
pins: 1 GND, 2 VO, 3 VI

## TLV76150DCY
designator *  value TLV76150DCY  Reference: U
5.0V, 1A, Low Noise, High-PSRR LDO Regulator, 2.5V...16V input, SOT-223; ki_keywords: voltage fixed low-dropout; ki_fp_filters: SOT*223*; Footprint: Package_TO_SOT_SMD:SOT-223-3_TabPin2; Datasheet: https://www.ti.com/lit/ds/symlink/tlv761.pdf; Description_: 5.0V, 1A, Low Noise, High-PSRR LDO Regulator, 2.5V...16V input, SOT-223
pins: 1 GND, 2 VO, 3 VI

## TLV76701DRVx
designator *  value TLV76701DRVx  Reference: U
1A, 16V Precision Linear Voltage Regulator, with enable pin, Adjustable Output 0.8-13.6V, WSON-6; ki_fp_filters: WSON*1EP*2x2mm*P0.65*; Footprint: Package_SON:WSON-6-1EP_2x2mm_P0.65mm_EP1x1.6mm_ThermalVias; Datasheet: www.ti.com/lit/gpn/TLV767; Description_: 1A, 16V Precision Linear Voltage Regulator, with enable pin, Adjustable Output 0.8-13.6V, WSON-6; ki_keywords: 1A, 16V Precision Linear Voltage Regulator
pins: 1 OUT, 2 FB, 3 GND, 4 EN, 5 GND, 6 IN, 7 PAD

## TLV76701QWDRBxQ1
designator *  value TLV76701QWDRBxQ1  Reference: U
1A, 16V Precision Linear Voltage Regulator, with enable pin, Adjustable Output 0.8-14.6V, VSON-8; ki_keywords: 1A 16V Precision Linear Voltage Regulator; ki_fp_filters: VSON*1EP*3x3mm*P0.65mm*; Footprint: Package_SON:VSON-8-1EP_3x3mm_P0.65mm_EP1.65x2.4mm; Datasheet: www.ti.com/lit/gpn/TLV767-q1; Description_: 1A, 16V Precision Linear Voltage Regulator, with enable pin, Adjustable Output 0.8-14.6V, VSON-8
pins: 1 OUT, 2 NC, 3 FB, 4 GND, 5 EN, 6 GND, 7 NC, 8 IN, 9 PAD

## TLV76708DRVx
designator *  value TLV76708DRVx  Reference: U
1A Precision Linear Voltage Regulator, with enable pin, Fixed Output 0.8V, WSON6; ki_fp_filters: WSON*1EP*2x2mm*P0.65*; Footprint: Package_SON:WSON-6-1EP_2x2mm_P0.65mm_EP1x1.6mm_ThermalVias; Datasheet: www.ti.com/lit/gpn/TLV767; Description_: 1A Precision Linear Voltage Regulator, with enable pin, Fixed Output 0.8V, WSON6; ki_keywords: 1A Precision Linear Voltage Regulator
pins: 1 OUT, 2 SNS, 3 GND, 4 EN, 5 GND, 6 IN, 7 PAD

## TLV76718DRVx
designator *  value TLV76718DRVx  Reference: U
1A Precision Linear Voltage Regulator, with enable pin, Fixed Output 1.8V, WSON6; ki_fp_filters: WSON*1EP*2x2mm*P0.65*; Footprint: Package_SON:WSON-6-1EP_2x2mm_P0.65mm_EP1x1.6mm_ThermalVias; Datasheet: www.ti.com/lit/gpn/TLV767; Description_: 1A Precision Linear Voltage Regulator, with enable pin, Fixed Output 1.8V, WSON6; ki_keywords: 1A Precision Linear Voltage Regulator
pins: 1 OUT, 2 SNS, 3 GND, 4 EN, 5 GND, 6 IN, 7 PAD

## TLV76728DRVx
designator *  value TLV76728DRVx  Reference: U
1A Precision Linear Voltage Regulator, with enable pin, Fixed Output 2.8V, WSON6; ki_fp_filters: WSON*1EP*2x2mm*P0.65*; Footprint: Package_SON:WSON-6-1EP_2x2mm_P0.65mm_EP1x1.6mm_ThermalVias; Datasheet: www.ti.com/lit/gpn/TLV767; Description_: 1A Precision Linear Voltage Regulator, with enable pin, Fixed Output 2.8V, WSON6; ki_keywords: 1A Precision Linear Voltage Regulator
pins: 1 OUT, 2 SNS, 3 GND, 4 EN, 5 GND, 6 IN, 7 PAD

## TLV76733DRVx
designator *  value TLV76733DRVx  Reference: U
1A Precision Linear Voltage Regulator, with enable pin, Fixed Output 3.3V, WSON6; ki_fp_filters: WSON*1EP*2x2mm*P0.65*; Footprint: Package_SON:WSON-6-1EP_2x2mm_P0.65mm_EP1x1.6mm_ThermalVias; Datasheet: www.ti.com/lit/gpn/TLV767; Description_: 1A Precision Linear Voltage Regulator, with enable pin, Fixed Output 3.3V, WSON6; ki_keywords: 1A Precision Linear Voltage Regulator
pins: 1 OUT, 2 SNS, 3 GND, 4 EN, 5 GND, 6 IN, 7 PAD

## TLV76733QWDRBxQ1
designator *  value TLV76733QWDRBxQ1  Reference: U
1A, 16V Precision Linear Voltage Regulator, with enable pin, Fixed Output 3.3V, VSON-8; ki_keywords: 1A 16V Precision Linear Voltage Regulator; ki_fp_filters: VSON*1EP*3x3mm*P0.65mm*; Footprint: Package_SON:VSON-8-1EP_3x3mm_P0.65mm_EP1.65x2.4mm; Datasheet: www.ti.com/lit/gpn/TLV767-q1; Description_: 1A, 16V Precision Linear Voltage Regulator, with enable pin, Fixed Output 3.3V, VSON-8
pins: 1 OUT, 2 NC, 3 SNS, 4 GND, 5 EN, 6 GND, 7 NC, 8 IN, 9 PAD

## TLV76750DRVx
designator *  value TLV76750DRVx  Reference: U
1A, 16V Precision Linear Voltage Regulator, with enable pin, Fixed Output 5.0V, WSON-6; ki_fp_filters: WSON*1EP*2x2mm*P0.65*; Footprint: Package_SON:WSON-6-1EP_2x2mm_P0.65mm_EP1x1.6mm_ThermalVias; Datasheet: www.ti.com/lit/gpn/TLV767; Description_: 1A, 16V Precision Linear Voltage Regulator, with enable pin, Fixed Output 5.0V, WSON-6; ki_keywords: 1A, 16V Precision Linear Voltage Regulator
pins: 1 OUT, 2 SNS, 3 GND, 4 EN, 5 GND, 6 IN, 7 PAD

## TLV76750QWDRBxQ1
designator *  value TLV76750QWDRBxQ1  Reference: U
1A, 16V Precision Linear Voltage Regulator, with enable pin, Fixed Output 5.0V, VSON-8; ki_keywords: 1A 16V Precision Linear Voltage Regulator; ki_fp_filters: VSON*1EP*3x3mm*P0.65mm*; Footprint: Package_SON:VSON-8-1EP_3x3mm_P0.65mm_EP1.65x2.4mm; Datasheet: www.ti.com/lit/gpn/TLV767-q1; Description_: 1A, 16V Precision Linear Voltage Regulator, with enable pin, Fixed Output 5.0V, VSON-8
pins: 1 OUT, 2 NC, 3 SNS, 4 GND, 5 EN, 6 GND, 7 NC, 8 IN, 9 PAD

## TLV76760QWDRBxQ1
designator *  value TLV76760QWDRBxQ1  Reference: U
1A, 16V Precision Linear Voltage Regulator, with enable pin, Fixed Output 6.0V, VSON-8; ki_keywords: 1A 16V Precision Linear Voltage Regulator; ki_fp_filters: VSON*1EP*3x3mm*P0.65mm*; Footprint: Package_SON:VSON-8-1EP_3x3mm_P0.65mm_EP1.65x2.4mm; Datasheet: www.ti.com/lit/gpn/TLV767-q1; Description_: 1A, 16V Precision Linear Voltage Regulator, with enable pin, Fixed Output 6.0V, VSON-8
pins: 1 OUT, 2 NC, 3 SNS, 4 GND, 5 EN, 6 GND, 7 NC, 8 IN, 9 PAD

## TLV76780QWDRBxQ1
designator *  value TLV76780QWDRBxQ1  Reference: U
1A, 16V Precision Linear Voltage Regulator, with enable pin, Fixed Output 8.0V, VSON-8; ki_keywords: 1A 16V Precision Linear Voltage Regulator; ki_fp_filters: VSON*1EP*3x3mm*P0.65mm*; Footprint: Package_SON:VSON-8-1EP_3x3mm_P0.65mm_EP1.65x2.4mm; Datasheet: www.ti.com/lit/gpn/TLV767-q1; Description_: 1A, 16V Precision Linear Voltage Regulator, with enable pin, Fixed Output 8.0V, VSON-8
pins: 1 OUT, 2 NC, 3 SNS, 4 GND, 5 EN, 6 GND, 7 NC, 8 IN, 9 PAD

## TLV76790QWDRBxQ1
designator *  value TLV76790QWDRBxQ1  Reference: U
1A, 16V Precision Linear Voltage Regulator, with enable pin, Fixed Output 9.0V, VSON-8; ki_keywords: 1A 16V Precision Linear Voltage Regulator; ki_fp_filters: VSON*1EP*3x3mm*P0.65mm*; Footprint: Package_SON:VSON-8-1EP_3x3mm_P0.65mm_EP1.65x2.4mm; Datasheet: www.ti.com/lit/gpn/TLV767-q1; Description_: 1A, 16V Precision Linear Voltage Regulator, with enable pin, Fixed Output 9.0V, VSON-8
pins: 1 OUT, 2 NC, 3 SNS, 4 GND, 5 EN, 6 GND, 7 NC, 8 IN, 9 PAD

## TLV702475_SOT23-5
designator *  value TLV702475_SOT23-5  Reference: U
300mA Low Dropout Voltage Regulator, Fixed Output 4.75V, SOT-23-5; ki_keywords: 300mA LDO Regulator Fixed Positive; ki_fp_filters: SOT?23*; Footprint: Package_TO_SOT_SMD:SOT-23-5; Datasheet: http://www.ti.com/lit/ds/symlink/tlv702.pdf; Description_: 300mA Low Dropout Voltage Regulator, Fixed Output 4.75V, SOT-23-5
pins: 1 IN, 2 GND, 3 EN, 4 NC, 5 OUT

## TLV713185PDBV
designator *  value TLV713185PDBV  Reference: U
150mA Low Dropout Voltage Regulator, Fixed Output 1.8V, SOT-23-5; ki_keywords: LDO Regulator Fixed Positive; ki_fp_filters: SOT?23*; Footprint: Package_TO_SOT_SMD:SOT-23-5; Datasheet: http://www.ti.com/lit/ds/symlink/tlv713p.pdf; Description_: 150mA Low Dropout Voltage Regulator, Fixed Output 1.8V, SOT-23-5
pins: 1 IN, 2 GND, 3 EN, 4 NC, 5 OUT

## TLV713285PDBV
designator *  value TLV713285PDBV  Reference: U
150mA Low Dropout Voltage Regulator, Fixed Output 2.85V, SOT-23-5; ki_keywords: LDO Regulator Fixed Positive; ki_fp_filters: SOT?23*; Footprint: Package_TO_SOT_SMD:SOT-23-5; Datasheet: http://www.ti.com/lit/ds/symlink/tlv713p.pdf; Description_: 150mA Low Dropout Voltage Regulator, Fixed Output 2.85V, SOT-23-5
pins: 1 IN, 2 GND, 3 EN, 4 NC, 5 OUT

## TLV733285PDBV
designator *  value TLV733285PDBV  Reference: U
300mA Capacitor-Free Low Dropout Voltage Regulator, Fixed Output 2.85V, SOT-23-5; ki_keywords: 300mA LDO Regulator Fixed Positive Capacitor-Free; ki_fp_filters: SOT?23*; Footprint: Package_TO_SOT_SMD:SOT-23-5; Datasheet: http://www.ti.com/lit/ds/symlink/tlv733p.pdf; Description_: 300mA Capacitor-Free Low Dropout Voltage Regulator, Fixed Output 2.85V, SOT-23-5
pins: 1 IN, 2 GND, 3 EN, 4 NC, 5 OUT

## TLV7113318DDSE
designator *  value TLV7113318DDSE  Reference: U
Dual, 200mA, Low-Iq Low-Dropout Regulator for Portable Devices, SON-6; ki_keywords: dual LDO; ki_fp_filters: *WSON*1.5x1.5mm*P0.5mm*; Footprint: Package_SON:WSON-6_1.5x1.5mm_P0.5mm; Datasheet: https://www.ti.com/lit/ds/symlink/tlv711.pdf; Description_: Dual, 200mA, Low-Iq Low-Dropout Regulator for Portable Devices, SON-6
pins: 1 EN1, 2 VIN, 3 EN2, 4 GND, 5 OUT2, 6 OUT1

## TLV7113333DDSE
designator *  value TLV7113333DDSE  Reference: U
Dual, 200mA, Low-Iq Low-Dropout Regulator for Portable Devices, SON-6; ki_keywords: dual LDO; ki_fp_filters: *WSON*1.5x1.5mm*P0.5mm*; Footprint: Package_SON:WSON-6_1.5x1.5mm_P0.5mm; Datasheet: https://www.ti.com/lit/ds/symlink/tlv711.pdf; Description_: Dual, 200mA, Low-Iq Low-Dropout Regulator for Portable Devices, SON-6
pins: 1 EN1, 2 VIN, 3 EN2, 4 GND, 5 OUT2, 6 OUT1

## TPS7A20xxxDQN
designator *  value TPS7A20xxxDQN  Reference: U
300 mA Low Dropout Voltage Regulator, Fixed Output, 1.6..6.0Vin, Low-Noise (7μV RMS), 6.5μA IQ LDO, X2SON-5; ki_keywords: Single Output LDO Texas-Instruments; ki_fp_filters: *X2SON*1x1mm*P0.65mm*; Footprint: Package_SON:Texas_X2SON-4_1x1mm_P0.65mm; Datasheet: https://www.ti.com/lit/ds/symlink/tps7a20.pdf; Description_: 300 mA Low Dropout Voltage Regulator, Fixed Output, 1.6..6.0Vin, Low-Noise (7μV RMS), 6.5μA IQ LDO, X2SON-5
pins: 1 OUT, 2 GND, 3 EN, 4 IN, 5 Pad

## TPS7A39
designator *  value TPS7A39  Reference: U
Dual, 150-mA, ±3.3V to ±33V Input, +1.2V to +30V and -30V to 0V Output, Wide VIN Positive and Negative LDO Voltage Regulator, 3x3mm WSON-10 package; ki_keywords: Dual LDO Regulator Adj Positive Negative; ki_fp_filters: Texas*PVSON*; Footprint: Package_SON:Texas_S-PVSON-N10_ThermalVias; Datasheet: https://www.ti.com/lit/ds/symlink/tps7a39.pdf; Description_: Dual, 150-mA, ±3.3V to ±33V Input, +1.2V to +30V and -30V to 0V Output, Wide VIN Positive and Negative LDO Voltage Regulator, 3x3mm WSON-10 package
pins: 1 INP, 2 EN, 3 NR/SS, 4 GND, 5 INN, 6 OUTN, 7 FBN, 8 BUF, 9 FBP, 10 OUTP, 11 GND

## TPS7A90
designator *  value TPS7A90  Reference: U
0.5A, High-Accuracy, Low-Noise LDO Voltage Regulator, Texas S-PDSO-N10; ki_fp_filters: Texas*S*PDSO*; Footprint: Package_DFN_QFN:Texas_S-PDSO-N10_EP1.2x2mm; Datasheet: http://www.ti.com/lit/ds/symlink/tps7a90.pdf; Description_: 0.5A, High-Accuracy, Low-Noise LDO Voltage Regulator, Texas S-PDSO-N10; ki_keywords: LDO voltage regulator
pins: 1 OUT, 2 OUT, 3 FB, 4 GND, 5 PG, 6 SS_CTRL, 7 EN, 8 NR/SS, 9 IN, 10 IN, 11 GND

## TPS7A91
designator *  value TPS7A91  Reference: U
1A, High-Accuracy, Low-Noise LDO Voltage Regulator, Texas S-PDSO-N10; ki_fp_filters: Texas*S*PDSO*; Footprint: Package_DFN_QFN:Texas_S-PDSO-N10_EP1.2x2mm; Datasheet: http://www.ti.com/lit/ds/symlink/tps7a91.pdf; Description_: 1A, High-Accuracy, Low-Noise LDO Voltage Regulator, Texas S-PDSO-N10; ki_keywords: LDO voltage regulator
pins: 1 OUT, 2 OUT, 3 FB, 4 GND, 5 PG, 6 SS_CTRL, 7 EN, 8 NR/SS, 9 IN, 10 IN, 11 GND

## TPS7A0508PDBV
designator *  value TPS7A0508PDBV  Reference: U
200-mA Ultra-Low-Iq LDO, 0.8V, SOT-23-5; ki_keywords: Single Output LDO Low-Iq; ki_fp_filters: SOT?23*; Footprint: Package_TO_SOT_SMD:SOT-23-5; Datasheet: https://www.ti.com/lit/ds/symlink/tps7a05.pdf; Description_: 200-mA Ultra-Low-Iq LDO, 0.8V, SOT-23-5
pins: 1 IN, 2 GND, 3 EN, 4 NC, 5 OUT

## TPS7A0508PDBZ
designator *  value TPS7A0508PDBZ  Reference: U
200-mA Ultra-Low-Iq LDO, 0.8V, SOT-23-3; ki_keywords: Single Output LDO Low-Iq; ki_fp_filters: SOT?23*; Footprint: Package_TO_SOT_SMD:SOT-23; Datasheet: https://www.ti.com/lit/ds/symlink/tps7a05.pdf; Description_: 200-mA Ultra-Low-Iq LDO, 0.8V, SOT-23-3
pins: 1 GND, 2 VO, 3 VI

## TPS7A0510PDBV
designator *  value TPS7A0510PDBV  Reference: U
200-mA Ultra-Low-Iq LDO, 1.0V, SOT-23-5; ki_keywords: Single Output LDO Low-Iq; ki_fp_filters: SOT?23*; Footprint: Package_TO_SOT_SMD:SOT-23-5; Datasheet: https://www.ti.com/lit/ds/symlink/tps7a05.pdf; Description_: 200-mA Ultra-Low-Iq LDO, 1.0V, SOT-23-5
pins: 1 IN, 2 GND, 3 EN, 4 NC, 5 OUT

## TPS7A0512PDBV
designator *  value TPS7A0512PDBV  Reference: U
200-mA Ultra-Low-Iq LDO, 1.2V, SOT-23-5; ki_keywords: Single Output LDO Low-Iq; ki_fp_filters: SOT?23*; Footprint: Package_TO_SOT_SMD:SOT-23-5; Datasheet: https://www.ti.com/lit/ds/symlink/tps7a05.pdf; Description_: 200-mA Ultra-Low-Iq LDO, 1.2V, SOT-23-5
pins: 1 IN, 2 GND, 3 EN, 4 NC, 5 OUT

## TPS7A0512PDBZ
designator *  value TPS7A0512PDBZ  Reference: U
200-mA Ultra-Low-Iq LDO, 1.2V, SOT-23-3; ki_keywords: Single Output LDO Low-Iq; ki_fp_filters: SOT?23*; Footprint: Package_TO_SOT_SMD:SOT-23; Datasheet: https://www.ti.com/lit/ds/symlink/tps7a05.pdf; Description_: 200-mA Ultra-Low-Iq LDO, 1.2V, SOT-23-3
pins: 1 GND, 2 VO, 3 VI

## TPS7A0515PDBV
designator *  value TPS7A0515PDBV  Reference: U
200-mA Ultra-Low-Iq LDO, 1.5V, SOT-23-5; ki_keywords: Single Output LDO Low-Iq; ki_fp_filters: SOT?23*; Footprint: Package_TO_SOT_SMD:SOT-23-5; Datasheet: https://www.ti.com/lit/ds/symlink/tps7a05.pdf; Description_: 200-mA Ultra-Low-Iq LDO, 1.5V, SOT-23-5
pins: 1 IN, 2 GND, 3 EN, 4 NC, 5 OUT

## TPS7A0518PDBV
designator *  value TPS7A0518PDBV  Reference: U
200-mA Ultra-Low-Iq LDO, 1.8V, SOT-23-5; ki_keywords: Single Output LDO Low-Iq; ki_fp_filters: SOT?23*; Footprint: Package_TO_SOT_SMD:SOT-23-5; Datasheet: https://www.ti.com/lit/ds/symlink/tps7a05.pdf; Description_: 200-mA Ultra-Low-Iq LDO, 1.8V, SOT-23-5
pins: 1 IN, 2 GND, 3 EN, 4 NC, 5 OUT

## TPS7A0518PDBZ
designator *  value TPS7A0518PDBZ  Reference: U
200-mA Ultra-Low-Iq LDO, 1.8V, SOT-23-3; ki_keywords: Single Output LDO Low-Iq; ki_fp_filters: SOT?23*; Footprint: Package_TO_SOT_SMD:SOT-23; Datasheet: https://www.ti.com/lit/ds/symlink/tps7a05.pdf; Description_: 200-mA Ultra-Low-Iq LDO, 1.8V, SOT-23-3
pins: 1 GND, 2 VO, 3 VI

## TPS7A0520PDBZ
designator *  value TPS7A0520PDBZ  Reference: U
200-mA Ultra-Low-Iq LDO, 2.0V, SOT-23-3; ki_keywords: Single Output LDO Low-Iq; ki_fp_filters: SOT?23*; Footprint: Package_TO_SOT_SMD:SOT-23; Datasheet: https://www.ti.com/lit/ds/symlink/tps7a05.pdf; Description_: 200-mA Ultra-Low-Iq LDO, 2.0V, SOT-23-3
pins: 1 GND, 2 VO, 3 VI

## TPS7A0522PDBV
designator *  value TPS7A0522PDBV  Reference: U
200-mA Ultra-Low-Iq LDO, 2.2V, SOT-23-5; ki_keywords: Single Output LDO Low-Iq; ki_fp_filters: SOT?23*; Footprint: Package_TO_SOT_SMD:SOT-23-5; Datasheet: https://www.ti.com/lit/ds/symlink/tps7a05.pdf; Description_: 200-mA Ultra-Low-Iq LDO, 2.2V, SOT-23-5
pins: 1 IN, 2 GND, 3 EN, 4 NC, 5 OUT

## TPS7A0522PDBZ
designator *  value TPS7A0522PDBZ  Reference: U
200-mA Ultra-Low-Iq LDO, 2.2V, SOT-23-3; ki_keywords: Single Output LDO Low-Iq; ki_fp_filters: SOT?23*; Footprint: Package_TO_SOT_SMD:SOT-23; Datasheet: https://www.ti.com/lit/ds/symlink/tps7a05.pdf; Description_: 200-mA Ultra-Low-Iq LDO, 2.2V, SOT-23-3
pins: 1 GND, 2 VO, 3 VI

## TPS7A0525PDBV
designator *  value TPS7A0525PDBV  Reference: U
200-mA Ultra-Low-Iq LDO, 2.5V, SOT-23-5; ki_keywords: Single Output LDO Low-Iq; ki_fp_filters: SOT?23*; Footprint: Package_TO_SOT_SMD:SOT-23-5; Datasheet: https://www.ti.com/lit/ds/symlink/tps7a05.pdf; Description_: 200-mA Ultra-Low-Iq LDO, 2.5V, SOT-23-5
pins: 1 IN, 2 GND, 3 EN, 4 NC, 5 OUT

## TPS7A0527PDBZ
designator *  value TPS7A0527PDBZ  Reference: U
200-mA Ultra-Low-Iq LDO, 2.7V, SOT-23-3; ki_keywords: Single Output LDO Low-Iq; ki_fp_filters: SOT?23*; Footprint: Package_TO_SOT_SMD:SOT-23; Datasheet: https://www.ti.com/lit/ds/symlink/tps7a05.pdf; Description_: 200-mA Ultra-Low-Iq LDO, 2.7V, SOT-23-3
pins: 1 GND, 2 VO, 3 VI

## TPS7A0528PDBZ
designator *  value TPS7A0528PDBZ  Reference: U
200-mA Ultra-Low-Iq LDO, 2.8V, SOT-23-3; ki_keywords: Single Output LDO Low-Iq; ki_fp_filters: SOT?23*; Footprint: Package_TO_SOT_SMD:SOT-23; Datasheet: https://www.ti.com/lit/ds/symlink/tps7a05.pdf; Description_: 200-mA Ultra-Low-Iq LDO, 2.8V, SOT-23-3
pins: 1 GND, 2 VO, 3 VI

## TPS7A0530PDBV
designator *  value TPS7A0530PDBV  Reference: U
200-mA Ultra-Low-Iq LDO, 3.0V, SOT-23-5; ki_keywords: Single Output LDO Low-Iq; ki_fp_filters: SOT?23*; Footprint: Package_TO_SOT_SMD:SOT-23-5; Datasheet: https://www.ti.com/lit/ds/symlink/tps7a05.pdf; Description_: 200-mA Ultra-Low-Iq LDO, 3.0V, SOT-23-5
pins: 1 IN, 2 GND, 3 EN, 4 NC, 5 OUT

## TPS7A0530PDBZ
designator *  value TPS7A0530PDBZ  Reference: U
200-mA Ultra-Low-Iq LDO, 3.0V, SOT-23-3; ki_keywords: Single Output LDO Low-Iq; ki_fp_filters: SOT?23*; Footprint: Package_TO_SOT_SMD:SOT-23; Datasheet: https://www.ti.com/lit/ds/symlink/tps7a05.pdf; Description_: 200-mA Ultra-Low-Iq LDO, 3.0V, SOT-23-3
pins: 1 GND, 2 VO, 3 VI

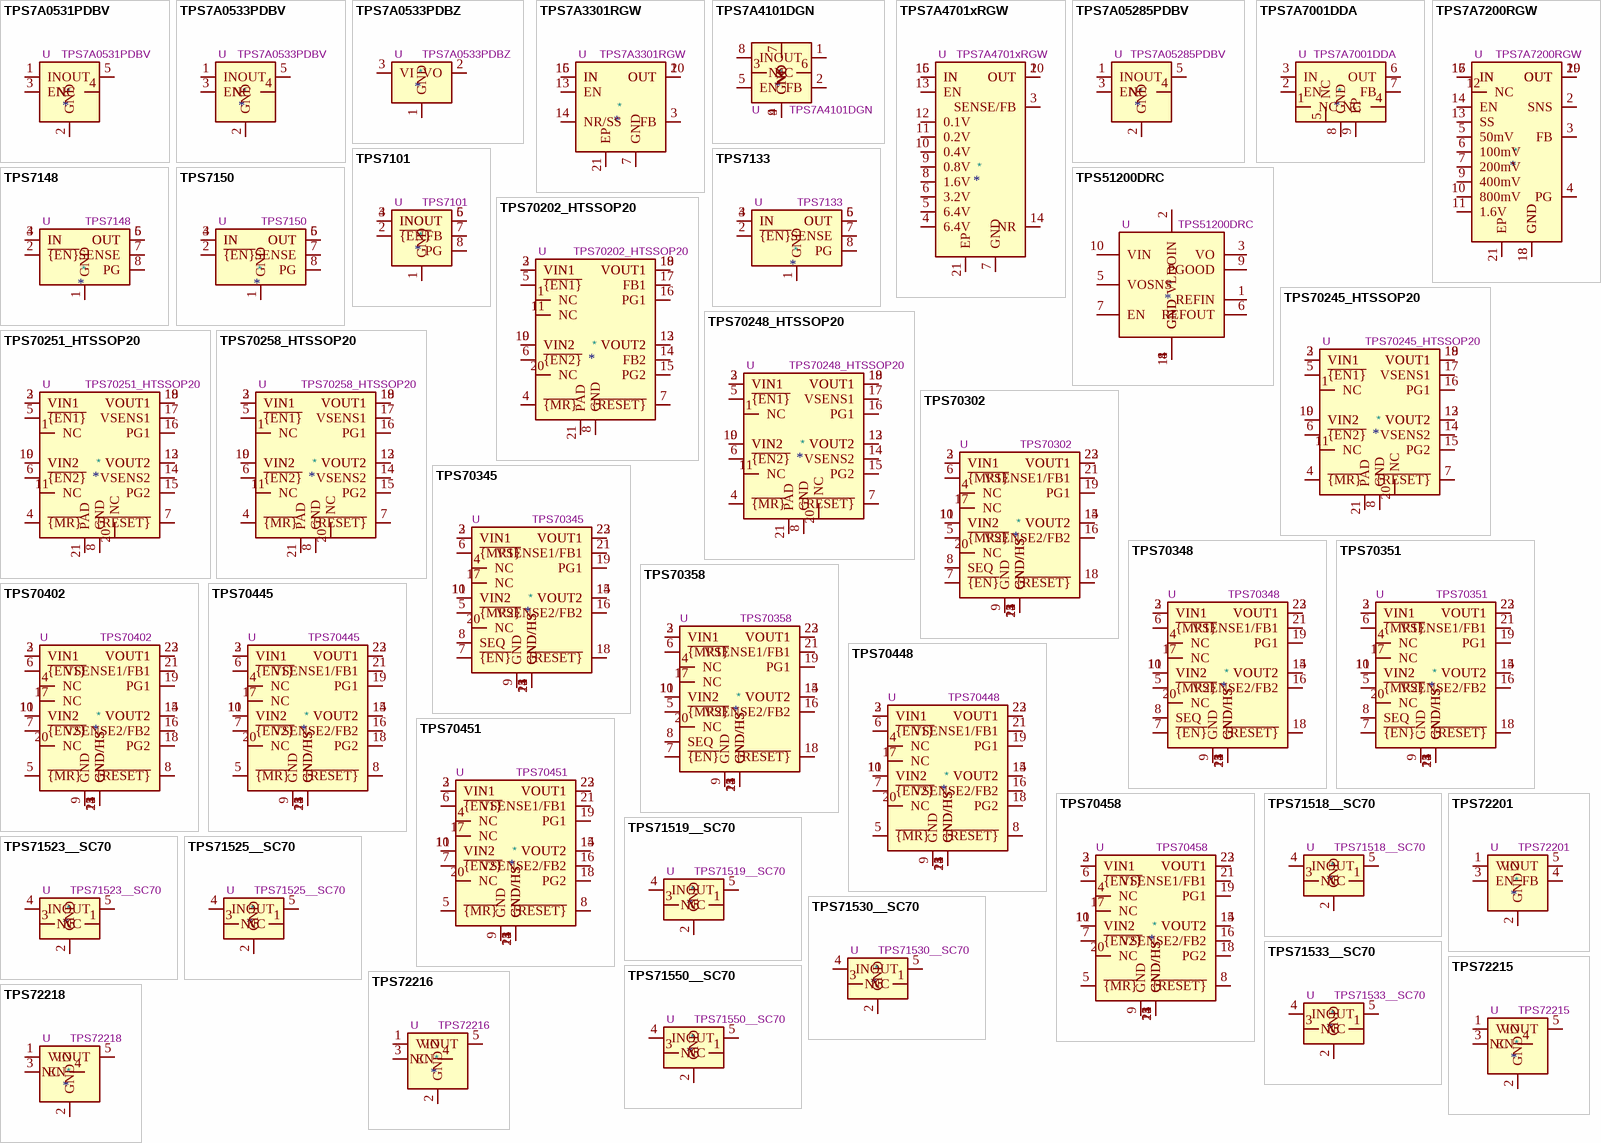
[diagram p37: symbols TPS7A0531PDBV to TPS72218]

## TPS7A0531PDBV
designator *  value TPS7A0531PDBV  Reference: U
200-mA Ultra-Low-Iq LDO, 3.1V, SOT-23-5; ki_keywords: Single Output LDO Low-Iq; ki_fp_filters: SOT?23*; Footprint: Package_TO_SOT_SMD:SOT-23-5; Datasheet: https://www.ti.com/lit/ds/symlink/tps7a05.pdf; Description_: 200-mA Ultra-Low-Iq LDO, 3.1V, SOT-23-5
pins: 1 IN, 2 GND, 3 EN, 4 NC, 5 OUT

## TPS7A0533PDBV
designator *  value TPS7A0533PDBV  Reference: U
200-mA Ultra-Low-Iq LDO, 3.3V, SOT-23-5; ki_keywords: Single Output LDO Low-Iq; ki_fp_filters: SOT?23*; Footprint: Package_TO_SOT_SMD:SOT-23-5; Datasheet: https://www.ti.com/lit/ds/symlink/tps7a05.pdf; Description_: 200-mA Ultra-Low-Iq LDO, 3.3V, SOT-23-5
pins: 1 IN, 2 GND, 3 EN, 4 NC, 5 OUT

## TPS7A0533PDBZ
designator *  value TPS7A0533PDBZ  Reference: U
200-mA Ultra-Low-Iq LDO, 3.3V, SOT-23-3; ki_keywords: Single Output LDO Low-Iq; ki_fp_filters: SOT?23*; Footprint: Package_TO_SOT_SMD:SOT-23; Datasheet: https://www.ti.com/lit/ds/symlink/tps7a05.pdf; Description_: 200-mA Ultra-Low-Iq LDO, 3.3V, SOT-23-3
pins: 1 GND, 2 VO, 3 VI

## TPS7A3301RGW
designator *  value TPS7A3301RGW  Reference: U
1A, Low-Noise Lod-Dropout Negative Voltage Regulator, -3..-36V Input, Adjustable -1.18...-33V Output, VQFN-20; ki_keywords: linear regulator ldo voltage negative; ki_fp_filters: Texas*RGW0020A*; Footprint: Package_DFN_QFN:Texas_RGW0020A_VQFN-20-1EP_5x5mm_P0.65mm_EP3.15x3.15mm_ThermalVias; Datasheet: https://www.ti.com/lit/ds/symlink/tps7a33.pdf; Description_: 1A, Low-Noise Lod-Dropout Negative Voltage Regulator, -3..-36V Input, Adjustable -1.18...-33V Output, VQFN-20
pins: 1 OUT, 3 FB, 7 GND, 13 EN, 14 NR/SS, 15 IN, 16 IN, 20 OUT, 21 EP

## TPS7A4101DGN
designator *  value TPS7A4101DGN  Reference: U
High voltage low-dropout linear regulator, 7V to 50 VIn, 1.175V to 48V output, 50mA, MSOP-8-EP; ki_keywords: LDO; ki_fp_filters: Texas*DGN0008B*1EP*3x3mm*P0.65mm*; Footprint: Package_SO:Texas_DGN0008B_VSSOP-8-1EP_3x3mm_P0.65mm_EP2x3mm_Mask1.88x1.98mm_ThermalVias; Datasheet: https://www.ti.com/lit/ds/symlink/tps7a4101.pdf; Description_: High voltage low-dropout linear regulator, 7V to 50 VIn, 1.175V to 48V output, 50mA, MSOP-8-EP
pins: 1 OUT, 2 FB, 3 NC, 4 GND, 5 EN, 6 NC, 7 NC, 8 IN, 9 GND

## TPS7A4701xRGW
designator *  value TPS7A4701xRGW  Reference: U
1A, Low-Noise Low-Dropout Voltage Regulator, 3-35V Input, Adjustable 1.4-34V Output, VQFN-20; ki_keywords: linear regulator ldo voltage noise; ki_fp_filters: Texas*RGW0020A*; Footprint: Package_DFN_QFN:Texas_RGW0020A_VQFN-20-1EP_5x5mm_P0.65mm_EP3.15x3.15mm_ThermalVias; Datasheet: https://www.ti.com/lit/ds/symlink/tps7a47.pdf; Description_: 1A, Low-Noise Low-Dropout Voltage Regulator, 3-35V Input, Adjustable 1.4-34V Output, VQFN-20
pins: 1 OUT, 3 SENSE/FB, 4 6.4V, 5 6.4V, 6 3.2V, 7 GND, 8 1.6V, 9 0.8V, 10 0.4V, 11 0.2V, 12 0.1V, 13 EN, 14 NR, 15 IN, 16 IN, 20 OUT, 21 EP

## TPS7A05285PDBV
designator *  value TPS7A05285PDBV  Reference: U
200-mA Ultra-Low-Iq LDO, 2.85V, SOT-23-5; ki_keywords: Single Output LDO Low-Iq; ki_fp_filters: SOT?23*; Footprint: Package_TO_SOT_SMD:SOT-23-5; Datasheet: https://www.ti.com/lit/ds/symlink/tps7a05.pdf; Description_: 200-mA Ultra-Low-Iq LDO, 2.85V, SOT-23-5
pins: 1 IN, 2 GND, 3 EN, 4 NC, 5 OUT

## TPS7A7001DDA
designator *  value TPS7A7001DDA  Reference: U
2A, Low-Dropout Voltage Regulator, 1.425-6.5V Input, Adjustable Min 0.5V Output, PowerPad SO-8; ki_keywords: ldo regulator voltage linear; ki_fp_filters: TI*SO*PowerPAD*; Footprint: Package_SO:TI_SO-PowerPAD-8; Datasheet: http://www.ti.com/lit/ds/symlink/tps7a7001.pdf; Description_: 2A, Low-Dropout Voltage Regulator, 1.425-6.5V Input, Adjustable Min 0.5V Output, PowerPad SO-8
pins: 1 NC, 2 EN, 3 IN, 4 NC, 5 NC, 6 OUT, 7 FB, 8 GND, 9 EP

## TPS7A7200RGW
designator *  value TPS7A7200RGW  Reference: U
2A, Low-Dropout Voltage Regulator, 1.5-6.5V Input, Adjustable 0.9-5V Output, VQFN-20; ki_keywords: linear regulator ldo voltage; ki_fp_filters: Texas*RGW0020A*; Footprint: Package_DFN_QFN:Texas_RGW0020A_VQFN-20-1EP_5x5mm_P0.65mm_EP3.15x3.15mm_ThermalVias; Datasheet: http://www.ti.com/lit/ds/symlink/tps7a7200.pdf; Description_: 2A, Low-Dropout Voltage Regulator, 1.5-6.5V Input, Adjustable 0.9-5V Output, VQFN-20
pins: 1 OUT, 2 SNS, 3 FB, 4 PG, 5 50mV, 6 100mV, 7 200mV, 8 GND, 9 400mV, 10 800mV, 11 1.6V, 12 NC, 13 SS, 14 EN, 15 IN, 16 IN, 17 IN, 18 GND, 19 OUT, 20 OUT, 21 EP

## TPS7101
designator *  value TPS7101  Reference: U
500mA Adjustable 1.2-9.75V Low Drop-out Voltage Regulator, SO-8/DIP-8; ki_keywords: LDO Voltage Regulator 500mA Adjustable; ki_fp_filters: SOIC*3.9x4.9mm*P1.27mm* DIP*W7.62mm*; Datasheet: http://www.ti.com/lit/ds/symlink/tps71.pdf; Description_: 500mA Adjustable 1.2-9.75V Low Drop-out Voltage Regulator, SO-8/DIP-8
pins: 1 GND, 2 ~{{EN}}, 3 IN, 4 IN, 5 OUT, 6 OUT, 7 FB, 8 PG